# Altium schematic symbol library Type K Connector Lib.SchLib: 1 symbol
Pins are listed as number, name and electrical type; pins without a type are passive.

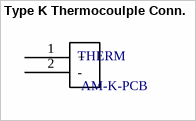
[diagram p0: symbol Type K Thermocoulple Conn.]

## Type K Thermocoulple Conn.
designator THERM, comment AM-K-PCB
footprint Type K Connector
pins: 1 +, 2 -